# EAGLE library part SUCHAI_STACKBREAKOUT (library SUCHAI_PC104 StackBreakout)
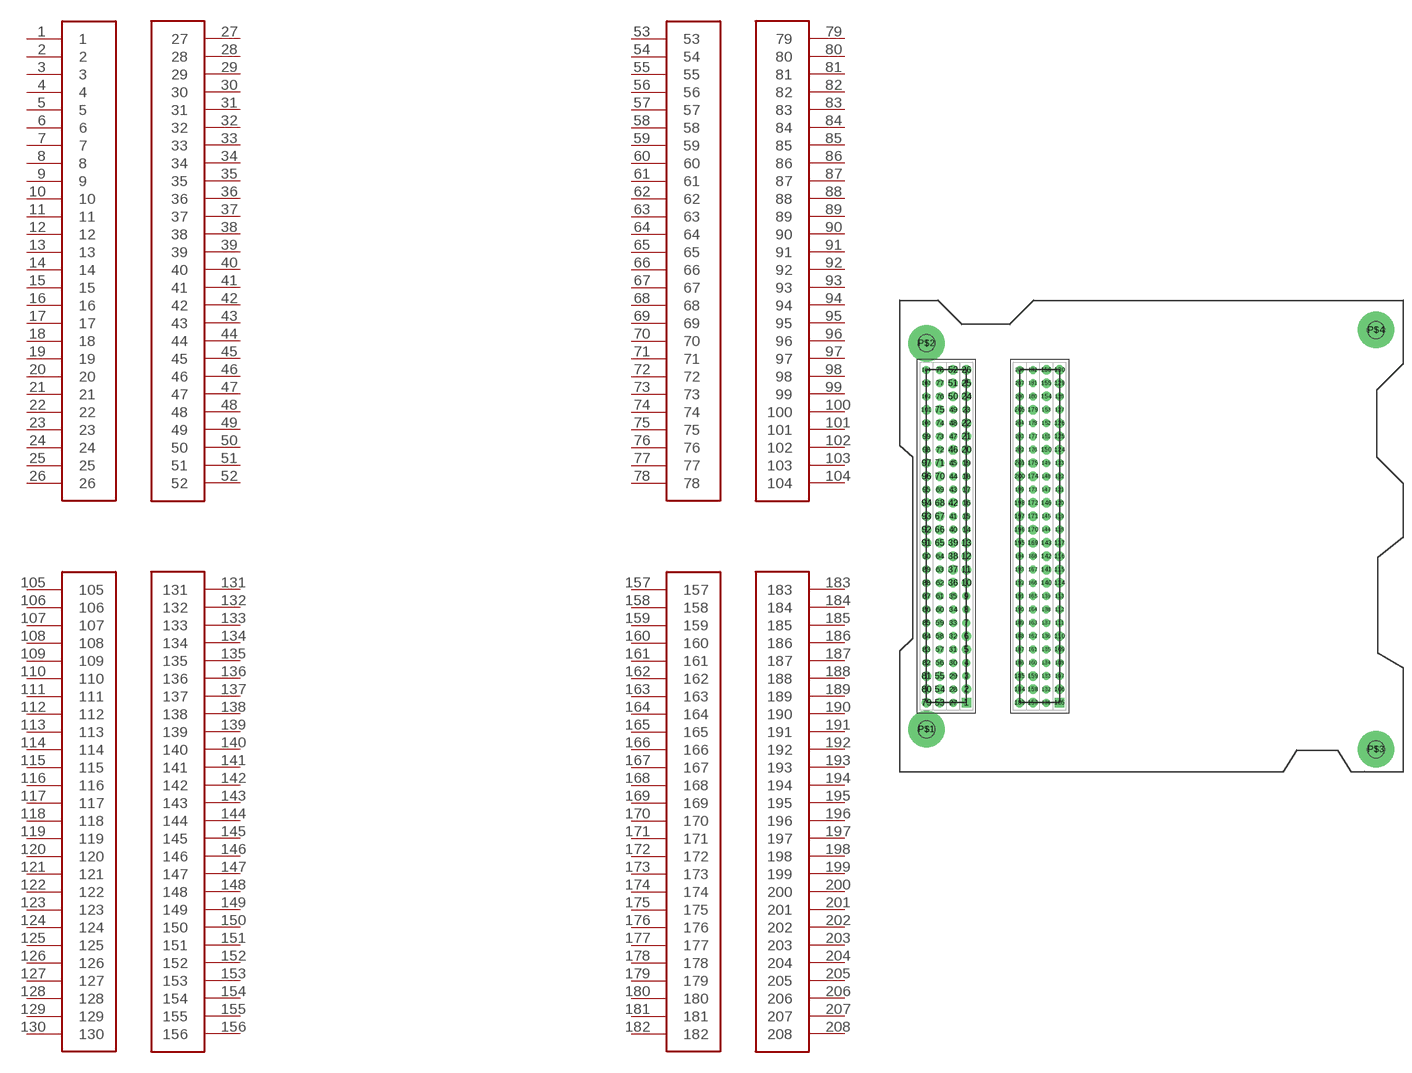
[diagram p1: symbol with the pads of SUCHAI_STACKBREAKOUT; footprint SUCHAI_STACKBREAKOUT]

Designator prefix -

## SUCHAI_STACKBREAKOUT  [SUCHAI_STACKBREAKOUT]
1  1
2  2
3  3
4  4
5  5
6  6
7  7
8  8
9  9
10  10
11  11
12  12
13  13
14  14
15  15
16  16
17  17
18  18
19  19
20  20
21  21
22  22
23  23
24  24
25  25
26  26
27  27
28  28
29  29
30  30
31  31
32  32
33  33
34  34
35  35
36  36
37  37
38  38
39  39
40  40
41  41
42  42
43  43
44  44
45  45
46  46
47  47
48  48
49  49
50  50
51  51
52  52
53  53
54  54
55  55
56  56
57  57
58  58
59  59
60  60
61  61
62  62
63  63
64  64
65  65
66  66
67  67
68  68
69  69
70  70
71  71
72  72
73  73
74  74
75  75
76  76
77  77
78  78
79  79
80  80
81  81
82  82
83  83
84  84
85  85
86  86
87  87
88  88
89  89
90  90
91  91
92  92
93  93
94  94
95  95
96  96
97  97
98  98
99  99
100  100
101  101
102  102
103  103
104  104
105  105
106  106
107  107
108  108
109  109
110  110
111  111
112  112
113  113
114  114
115  115
116  116
117  117
118  118
119  119
120  120
121  121
122  122
123  123
124  124
125  125
126  126
127  127
128  128
129  129
130  130
131  131
132  132
133  133
134  134
135  135
136  136
137  137
138  138
139  139
140  140
141  141
142  142
143  143
144  144
145  145
146  146
147  147
148  148
149  149
150  150
151  151
152  152
153  153
154  154
155  155
156  156
157  157
158  158
159  159
160  160
161  161
162  162
163  163
164  164
165  165
166  166
167  167
168  168
169  169
170  170
171  171
172  172
173  173
174  174
175  175
176  176
177  177
178  178
179  179
180  180
181  181
182  182
183  183
184  184
185  185
186  186
187  187
188  188
189  189
190  190
191  191
192  192
193  193
194  194
195  195
196  196
197  197
198  198
199  199
200  200
201  201
202  202
203  203
204  204
205  205
206  206
207  207
208  208

## Footprint SUCHAI_STACKBREAKOUT (pad centres in mm)
ASSEMBLY, SOCKET STRIP .016 X .031 TAIL.
drill 1.016 pad 1.8 square: 1 12.72,13.16; 105 30.5,13.16
drill 1.016 pad 1.8: 2 12.72,15.7; 5 12.72,23.32; 6 12.72,25.86; 10 12.72,36.02; 11 12.72,38.56; 12 12.72,41.1; 13 12.72,43.64; 20 12.72,61.42; 21 12.72,63.96; 22 12.72,66.5; 24 12.72,71.58; 25 12.72,74.12; 26 12.72,76.66; 36 10.18,36.02; 37 10.18,38.56; 38 10.18,41.1; 39 10.18,43.64; 42 10.18,51.26; 46 10.18,61.42; 50 10.18,71.58; 51 10.18,74.12; 52 10.18,76.66; 53 7.64,13.16; 54 7.64,15.7; 55 7.64,18.24; 65 7.64,43.64; 66 7.64,46.18; 67 7.64,48.72; 68 7.64,51.26; 70 7.64,56.34; 71 7.64,58.88; 75 7.64,69.04; 79 5.1,13.16; 80 5.1,15.7; 81 5.1,18.24; 91 5.1,43.64; 92 5.1,46.18; 93 5.1,48.72; 94 5.1,51.26; 96 5.1,56.34; 97 5.1,58.88; 101 5.1,69.04; 106 30.5,15.7; 109 30.5,23.32; 110 30.5,25.86; 114 30.5,36.02; 115 30.5,38.56; 116 30.5,41.1; 117 30.5,43.64; 124 30.5,61.42; 125 30.5,63.96; 126 30.5,66.5; 129 30.5,74.12; 130 30.5,76.66; 140 27.96,36.02; 141 27.96,38.56; 142 27.96,41.1; 143 27.96,43.64; 146 27.96,51.26; 150 27.96,61.42; 154 27.96,71.58; 155 27.96,74.12; 156 27.96,76.66; 157 25.42,13.16; 158 25.42,15.7; 159 25.42,18.24; 169 25.42,43.64; 170 25.42,46.18; 171 25.42,48.72; 172 25.42,51.26; 174 25.42,56.34; 175 25.42,58.88; 179 25.42,69.04; 183 22.88,13.16; 184 22.88,15.7; 185 22.88,18.24; 195 22.88,43.64; 196 22.88,46.18; 197 22.88,48.72; 198 22.88,51.26; 200 22.88,56.34; 201 22.88,58.88; 205 22.88,69.04
drill 1.016 pad 1.524: 3 12.72,18.24; 4 12.72,20.78; 7 12.72,28.4; 8 12.72,30.94; 9 12.72,33.48; 14 12.72,46.18; 15 12.72,48.72; 16 12.72,51.26; 17 12.72,53.8; 18 12.72,56.34; 19 12.72,58.88; 23 12.72,69.04; 27 10.18,13.16; 28 10.18,15.7; 29 10.18,18.24; 30 10.18,20.78; 31 10.18,23.32; 32 10.18,25.86; 33 10.18,28.4; 34 10.18,30.94; 35 10.18,33.48; 40 10.18,46.18; 41 10.18,48.72; 43 10.18,53.8; 44 10.18,56.34; 45 10.18,58.88; 47 10.18,63.96; 48 10.18,66.5; 49 10.18,69.04; 56 7.64,20.78; 57 7.64,23.32; 58 7.64,25.86; 59 7.64,28.4; 60 7.64,30.94; 61 7.64,33.48; 62 7.64,36.02; 63 7.64,38.56; 64 7.64,41.1; 69 7.64,53.8; 72 7.64,61.42; 73 7.64,63.96; 74 7.64,66.5; 76 7.64,71.58; 77 7.64,74.12; 78 7.64,76.66; 82 5.1,20.78; 83 5.1,23.32; 84 5.1,25.86; 85 5.1,28.4; 86 5.1,30.94; 87 5.1,33.48; 88 5.1,36.02; 89 5.1,38.56; 90 5.1,41.1; 95 5.1,53.8; 98 5.1,61.42; 99 5.1,63.96; 100 5.1,66.5; 102 5.1,71.58; 103 5.1,74.12; 104 5.1,76.66; 107 30.5,18.24; 108 30.5,20.78; 111 30.5,28.4; 112 30.5,30.94; 113 30.5,33.48; 118 30.5,46.18; 119 30.5,48.72; 120 30.5,51.26; 121 30.5,53.8; 122 30.5,56.34; 123 30.5,58.88; 127 30.5,69.04; 128 30.5,71.58; 131 27.96,13.16; 132 27.96,15.7; 133 27.96,18.24; 134 27.96,20.78; 135 27.96,23.32; 136 27.96,25.86; 137 27.96,28.4; 138 27.96,30.94; 139 27.96,33.48; 144 27.96,46.18; 145 27.96,48.72; 147 27.96,53.8; 148 27.96,56.34; 149 27.96,58.88; 151 27.96,63.96; 152 27.96,66.5; 153 27.96,69.04; 160 25.42,20.78; 161 25.42,23.32; 162 25.42,25.86; 163 25.42,28.4; 164 25.42,30.94; 165 25.42,33.48; 166 25.42,36.02; 167 25.42,38.56; 168 25.42,41.1; 173 25.42,53.8; 176 25.42,61.42; 177 25.42,63.96; 178 25.42,66.5; 180 25.42,71.58; 181 25.42,74.12; 182 25.42,76.66; 186 22.88,20.78; 187 22.88,23.32; 188 22.88,25.86; 189 22.88,28.4; 190 22.88,30.94; 191 22.88,33.48; 192 22.88,36.02; 193 22.88,38.56; 194 22.88,41.1; 199 22.88,53.8; 202 22.88,61.42; 203 22.88,63.96; 204 22.88,66.5; 206 22.88,71.58; 207 22.88,74.12; 208 22.88,76.66
drill 3.4 pad 7: P$1 5.1,8.08; P$2 5.1,81.74; P$3 90.83,4.27; P$4 90.84,84.27
hole 3.2 at 5.1,8.08
hole 3.2 at 90.83,4.27
hole 3.2 at 90.84,84.27
hole 3.2 at 5.1,81.74